# EAGLE library part IFX740/68 (library pld-intel)
PLD
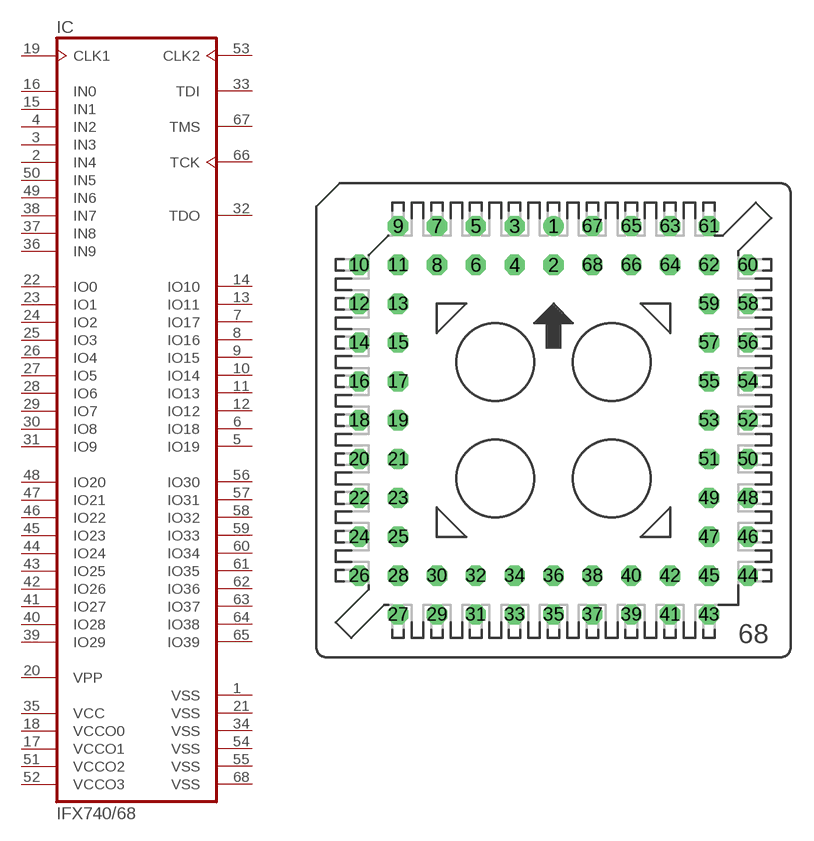
[diagram p4: symbol with the pads of S68; footprint S68]

Designator prefix IC

## IFX740/68 (OC_FARNELL: unknown; OC_NEWARK: unknown)  [S68]
1  VSS  pwr
2  IN4  in
3  IN3  in
4  IN2  in
5  IO19
6  IO18
7  IO17
8  IO16
9  IO15
10  IO14
11  IO13
12  IO12
13  IO11
14  IO10
15  IN1  in
16  IN0  in
17  VCCO1  sup
18  VCCO0  sup
19  CLK1  in
20  VPP  sup
21  VSS  pwr
22  IO0
23  IO1
24  IO2
25  IO3
26  IO4
27  IO5
28  IO6
29  IO7
30  IO8
31  IO9
32  TDO  out
33  TDI  in
34  VSS  pwr
35  VCC  pwr
36  IN9  in
37  IN8  in
38  IN7  in
39  IO29
40  IO28
41  IO27
42  IO26
43  IO25
44  IO24
45  IO23
46  IO22
47  IO21
48  IO20
49  IN6  in
50  IN5  in
51  VCCO2  sup
52  VCCO3  sup
53  CLK2  in
54  VSS  pwr
55  VSS  pwr
56  IO30
57  IO31
58  IO32
59  IO33
60  IO34
61  IO35
62  IO36
63  IO37
64  IO38
65  IO39
66  TCK  in
67  TMS  in
68  VSS  pwr

## Footprint S68 (pad centres in mm)
PLCC SOCKET
drill 0.813: 1 0,12.7
drill 0.813 octagon: 2 0,10.16; 3 -2.54,12.7; 4 -2.54,10.16; 5 -5.08,12.7; 6 -5.08,10.16; 7 -7.62,12.7; 8 -7.62,10.16; 9 -10.16,12.7; 10 -12.7,10.16; 11 -10.16,10.16; 12 -12.7,7.62; 13 -10.16,7.62; 14 -12.7,5.08; 15 -10.16,5.08; 16 -12.7,2.54; 17 -10.16,2.54; 18 -12.7,0; 19 -10.16,0; 20 -12.7,-2.54; 21 -10.16,-2.54; 22 -12.7,-5.08; 23 -10.16,-5.08; 24 -12.7,-7.62; 25 -10.16,-7.62; 26 -12.7,-10.16; 27 -10.16,-12.7; 28 -10.16,-10.16; 29 -7.62,-12.7; 30 -7.62,-10.16; 31 -5.08,-12.7; 32 -5.08,-10.16; 33 -2.54,-12.7; 34 -2.54,-10.16; 35 0,-12.7; 36 0,-10.16; 37 2.54,-12.7; 38 2.54,-10.16; 39 5.08,-12.7; 40 5.08,-10.16; 41 7.62,-12.7; 42 7.62,-10.16; 43 10.16,-12.7; 44 12.7,-10.16; 45 10.16,-10.16; 46 12.7,-7.62; 47 10.16,-7.62; 48 12.7,-5.08; 49 10.16,-5.08; 50 12.7,-2.54; 51 10.16,-2.54; 52 12.7,0; 53 10.16,0; 54 12.7,2.54; 55 10.16,2.54; 56 12.7,5.08; 57 10.16,5.08; 58 12.7,7.62; 59 10.16,7.62; 60 12.7,10.16; 61 10.16,12.7; 62 10.16,10.16; 63 7.62,12.7; 64 7.62,10.16; 65 5.08,12.7; 66 5.08,10.16; 67 2.54,12.7; 68 2.54,10.16